# EAGLE library part PINHEAD-1X19 (library BaseApp)
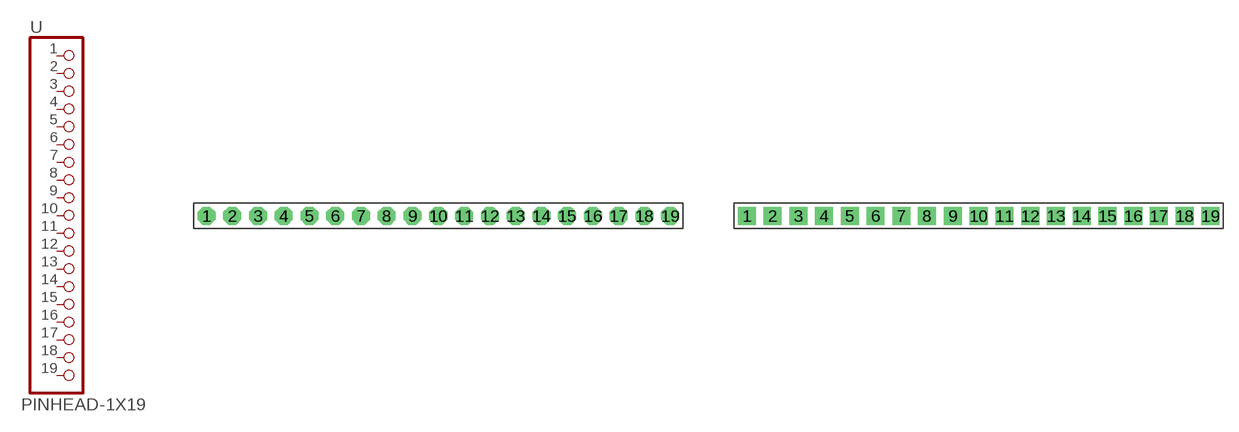
[diagram p64: symbol with the pads of PINHEAD-1X19; footprints PINHEAD-1X19, PINHEAD-1X19-SQUARE]

Designator prefix -

## PINHEAD-1X19  [PINHEAD-1X19]
1  1  pas
2  2  pas
3  3  pas
4  4  pas
5  5  pas
6  6  pas
7  7  pas
8  8  pas
9  9  pas
10  10  pas
11  11  pas
12  12  pas
13  13  pas
14  14  pas
15  15  pas
16  16  pas
17  17  pas
18  18  pas
19  19  pas

## PINHEAD-1X19.  [PINHEAD-1X19-SQUARE]
Pads as for PINHEAD-1X19

## Footprint PINHEAD-1X19 (pad centres in mm)
drill 1.016 pad 1.778 octagon: 1 -22.86,0; 2 -20.32,0; 3 -17.78,0; 4 -15.24,0; 5 -12.7,0; 6 -10.16,0; 7 -7.62,0; 8 -5.08,0; 9 -2.54,0; 10 0,0; 11 2.54,0; 12 5.08,0; 13 7.62,0; 14 10.16,0; 15 12.7,0; 16 15.24,0; 17 17.78,0; 18 20.32,0; 19 22.86,0

## Footprint PINHEAD-1X19-SQUARE (pad centres in mm)
drill 1.016 pad 1.778 square: 1 -22.86,0; 2 -20.32,0; 3 -17.78,0; 4 -15.24,0; 5 -12.7,0; 6 -10.16,0; 7 -7.62,0; 8 -5.08,0; 9 -2.54,0; 10 0,0; 11 2.54,0; 12 5.08,0; 13 7.62,0; 14 10.16,0; 15 12.7,0; 16 15.24,0; 17 17.78,0; 18 20.32,0; 19 22.86,0